# Altium schematic symbol library PTS636SM50JSMTRLFS.SchLib: 1 symbol
Pins are listed as number, name and electrical type; pins without a type are passive.

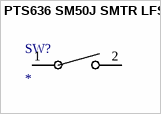
[diagram p0: symbol PTS636 SM50J SMTR LFS]

## PTS636 SM50J SMTR LFS
designator SW?
No Description Available; Mfr_Name: C&K Components; Type: Tactile Switches
footprint SW_PTS636_CNK
pins: 1, 2